# Altium footprint library 7S_WR.PcbLib: 75 footprints (part 4 of 5)
Each footprint in its own frame and in the unit in brackets; x right, y up, seen from the top. Pads: shape width x height; smd on the part's side, far side on the other; paste and mask are expansions set on the pad; w line width, h text height; cw(c..) or ccw(c..) is an arc to the next point about the centre after c.
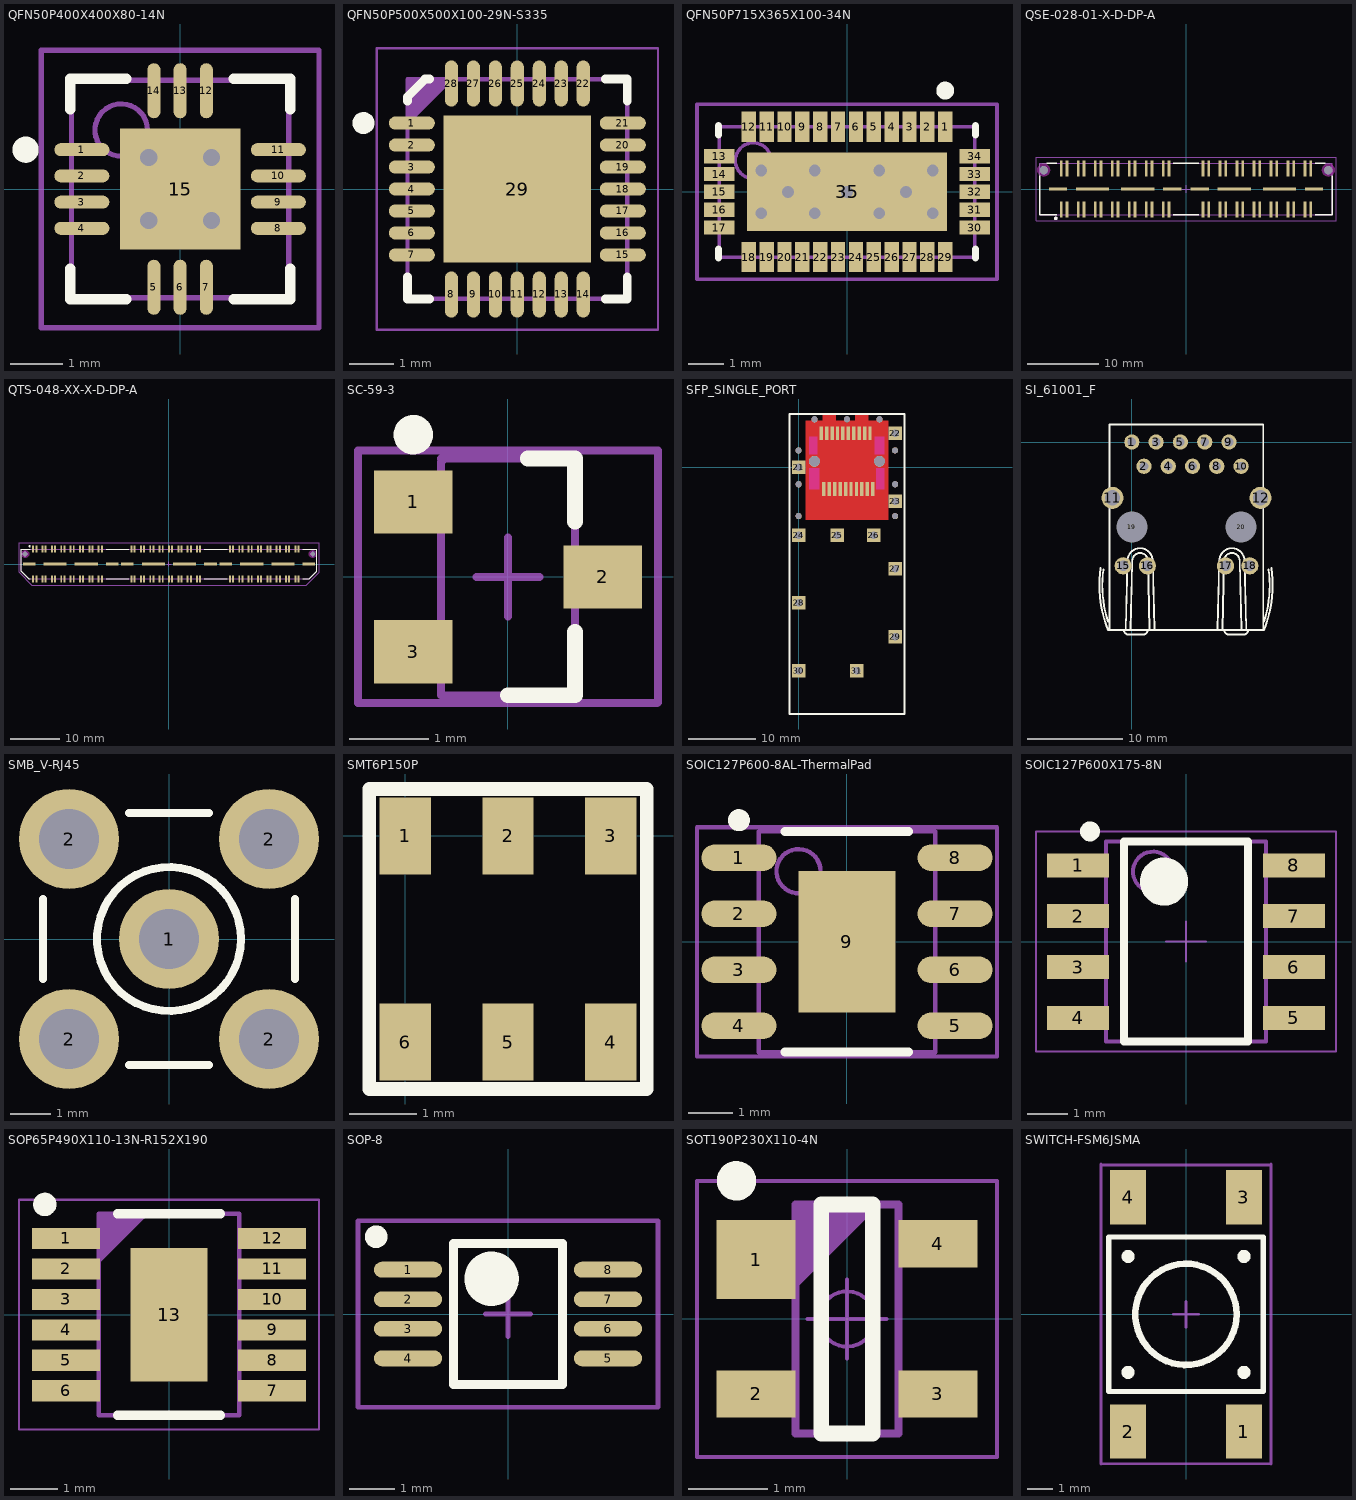
[diagram p3: the footprints below, top view; thin cyan lines are the x and y axes]

## QFN50P400X400X80-14N [mm] "QFN, 14-Leads, Body 4,2x4,2mm (max), Pitch 0,50mm, IPC Medium Density"
height 3.55
pads (15):
  oval 1.05x0.25 smd: 1(-1.875,0.75) 2(-1.875,0.25) 3(-1.875,-0.25) 4(-1.875,-0.75) 8(1.875,-0.75) 9(1.875,-0.25) 10(1.875,0.25) 11(1.875,0.75)
  oval 0.25x1.05 smd: 5(-0.5,-1.875) 6(0,-1.875) 7(0.5,-1.875) 12(0.5,1.875) 13(0,1.875) 14(-0.5,1.875)
  rect 2.3x2.3 smd: 15(0,0)
via 0.6,-0.6 diameter 0.66 hole 0.33
via -0.6,-0.6 diameter 0.66 hole 0.33
via 0.6,0.6 diameter 0.66 hole 0.33
via -0.6,0.6 diameter 0.66 hole 0.33
Top Overlay:
  circle w0.25: c-2.95,0.75 r0.125
  lines w0.2: -2.1,-1.525 -2.1,-2.1 -1.025,-2.1 ; -2.1,1.525 -2.1,2.1 -1.025,2.1 ; 1.025,-2.1 2.1,-2.1 2.1,-1.525 ; 1.025,2.1 2.1,2.1 2.1,1.525
Mechanical 13:
  circle w0.1: c-1.125,1.125 r0.5
  lines w0.1: -2.075,-2.075 2.075,-2.075 2.075,2.075 -2.075,2.075 -2.075,-2.075
Mechanical 15:
  lines w0.1: -0.5,0 0.5,0 ; 0,-0.5 0,0.5 ; -2.65,-2.65 2.65,-2.65 2.65,2.65 -2.65,2.65 -2.65,-2.65
3D body: height 0.8, standoff 0.01, extent -2.075,-2.075 2.075,2.075

## QFN50P500X500X100-29N-S335 [mm] "QFN, 0.50mm Pitch, Square; 28 pin, 5.00mm L X 5.00mm W X 1.00mm H body (w/thermal tab 3.35 X 3.35mm),  IPC Medium Density"
height 1
pads (29):
  oval 1.05x0.3 smd: 1(-2.4,1.5) 2(-2.4,1) 3(-2.4,0.5) 4(-2.4,0) 5(-2.4,-0.5) 6(-2.4,-1) 7(-2.4,-1.5) 15(2.4,-1.5) 16(2.4,-1) 17(2.4,-0.5) 18(2.4,0) 19(2.4,0.5) 20(2.4,1) 21(2.4,1.5)
  oval 0.3x1.05 smd: 8(-1.5,-2.4) 9(-1,-2.4) 10(-0.5,-2.4) 11(0,-2.4) 12(0.5,-2.4) 13(1,-2.4) 14(1.5,-2.4) 22(1.5,2.4) 23(1,2.4) 24(0.5,2.4) 25(0,2.4) 26(-0.5,2.4) 27(-1,2.4) 28(-1.5,2.4)
  rect 3.35x3.35 smd: 29(0,0)
Top Overlay:
  circle w0.25: c-3.5,1.5 r0.125
  lines w0.2: -2.5,-2 -2.5,-2.5 -2,-2.5 ; -2.5,2 -2.5,2.1 -2.1,2.5 -2,2.5 ; 2,-2.5 2.5,-2.5 2.5,-2 ; 2,2.5 2.5,2.5 2.5,2
Mechanical 14:
  lines w0.1: -2.5,1.5 -1.5,2.5 ; -2.5,1.6 -1.6,2.5 ; -2.5,1.7 -1.7,2.5 ; -2.5,1.8 -1.8,2.5 ; -2.5,1.9 -1.9,2.5 ; -2.5,2 -2,2.5 ; -2.5,2.1 -2.1,2.5 ; -2.5,2.2 -2.2,2.5 ; -2.5,2.3 -2.3,2.5 ; -2.5,2.4 -2.4,2.5 ; -2.5,-2.5 2.5,-2.5 2.5,2.5 -2.5,2.5 -2.5,-2.5
Mechanical 15:
  circle w0.05: c0,0 r0.35
  lines w0.05: -0.5,0 0.5,0 ; 0,-0.5 0,0.5 ; -3.2,-3.2 3.2,-3.2 3.2,3.2 -3.2,3.2 -3.2,-3.2
3D body: height 1, standoff 0, extent -2.5,-2.5 2.5,2.5

## QFN50P715X365X100-34N [mm] "QFN, 34-Leads, Body 3,7x7,2mm (max), Pitch 0,50mm, IPC Medium Density"
height 1
pads (35):
  rect 0.4x0.85 smd: 1(2.75,1.825) 2(2.25,1.825) 3(1.75,1.825) 4(1.25,1.825) 5(0.75,1.825) 6(0.25,1.825) 7(-0.25,1.825) 8(-0.75,1.825) 9(-1.25,1.825) 10(-1.75,1.825) 11(-2.25,1.825) 12(-2.75,1.825) 18(-2.75,-1.825) 19(-2.25,-1.825) 20(-1.75,-1.825) 21(-1.25,-1.825) 22(-0.75,-1.825) 23(-0.25,-1.825) 24(0.25,-1.825) 25(0.75,-1.825) 26(1.25,-1.825) 27(1.75,-1.825) 28(2.25,-1.825) 29(2.75,-1.825)
  rect 0.85x0.4 smd: 13(-3.575,1) 14(-3.575,0.5) 15(-3.575,0) 16(-3.575,-0.5) 17(-3.575,-1) 30(3.575,-1) 31(3.575,-0.5) 32(3.575,0) 33(3.575,0.5) 34(3.575,1)
  rect 5.6x2.2 smd: 35(0,0)
via 1.65,0 diameter 0.66 hole 0.33
via 0,0 diameter 0.66 hole 0.33
via -1.65,0 diameter 0.66 hole 0.33
via 2.4,-0.6 diameter 0.66 hole 0.33
via 0.9,-0.6 diameter 0.66 hole 0.33
via -0.9,-0.6 diameter 0.66 hole 0.33
via -2.4,-0.6 diameter 0.66 hole 0.33
via 2.4,0.6 diameter 0.66 hole 0.33
via 0.9,0.6 diameter 0.66 hole 0.33
via -0.9,0.6 diameter 0.66 hole 0.33
via -2.4,0.6 diameter 0.66 hole 0.33
Top Overlay:
  circle w0.25: c2.75,2.835 r0.125
  lines w0.2: -3.6,-1.6 -3.6,-1.85 ; -3.6,1.6 -3.6,1.85 ; 3.6,-1.85 3.6,-1.6 ; 3.6,1.6 3.6,1.85 ; -3.6,-1.85 -3.6,-1.85 ; -3.6,1.85 -3.6,1.85
Mechanical 13:
  circle w0.1: c-2.625,0.875 r0.5
  lines w0.1: -3.575,-1.825 3.575,-1.825 3.575,1.825 -3.575,1.825 -3.575,-1.825
Mechanical 15:
  lines w0.1: -0.5,0 0.5,0 ; 0,-0.5 0,0.5 ; -4.2,-2.45 4.2,-2.45 4.2,2.45 -4.2,2.45 -4.2,-2.45
3D body: height 1, standoff 0.05, extent -3.575,-1.825 3.575,1.825

## QSE-028-01-X-D-DP-A [mm] "0.80mm pitch, 56 pin, high speed socket strip; differential"
height 3.25
pads (66):
  rect 0.4x2.25 smd mask+0: 1(-17.6,-2.87) 2(-17.6,2.87) 3(-16.8,-2.87) 4(-16.8,2.87) 5(-15.2,-2.87) 6(-15.2,2.87) 7(-14.4,-2.87) 8(-14.4,2.87) 9(-12.8,-2.87) 10(-12.8,2.87) 11(-12,-2.87) 12(-12,2.87) 13(-10.4,-2.87) 14(-10.4,2.87) 15(-9.6,-2.87) 16(-9.6,2.87) 17(-8,-2.87) 18(-8,2.87) 19(-7.2,-2.87) 20(-7.2,2.87) 21(-5.6,-2.87) 22(-5.6,2.87) 23(-4.8,-2.87) 24(-4.8,2.87) 25(-3.2,-2.87) 26(-3.2,2.87) 27(-2.4,-2.87) 28(-2.4,2.87) 29(2.4,-2.87) 30(2.4,2.87) 31(3.2,-2.87) 32(3.2,2.87) 33(4.8,-2.87) 34(4.8,2.87) 35(5.6,-2.87) 36(5.6,2.87) 37(7.2,-2.87) 38(7.2,2.87) 39(8,-2.87) 40(8,2.87) 41(9.6,-2.87) 42(9.6,2.87) 43(10.4,-2.87) 44(10.4,2.87) 45(12,-2.87) 46(12,2.87) 47(12.8,-2.87) 48(12.8,2.87) 49(14.4,-2.87) 50(14.4,2.87) 51(15.2,-2.87) 52(15.2,2.87) 53(16.8,-2.87) 54(16.8,2.87) 55(17.6,-2.87) 56(17.6,2.87)
  rect 2.55x0.45 smd mask+0: 57(-18.065,0) 60(-1.935,0) 61(1.935,0) 64(18.065,0)
  rect 4.7x0.45 smd mask+0: 58(-13.175,0) 59(-6.825,0) 62(6.825,0) 63(13.175,0)
  round 1 hole 1.2 unplated mask+0: 65(-20.065,2.67) 66(20.065,2.67)
Top Overlay:
  circle w0.25: c-18.35,-4.15 r0.125
  lines w0.2: -20.65,1.85 -20.65,-3.6 -18.2,-3.6 ; -19.6,3.6 -18.2,3.6 ; -1.8,-3.6 1.8,-3.6 ; -1.8,3.6 1.8,3.6 ; 18.2,-3.6 20.65,-3.6 20.65,1.85 ; 18.2,3.6 19.6,3.6
Keep-Out Layer:
  pour cut-out: -19.157,2.67 -19.188,2.905 -19.279,3.124 -19.423,3.312 -19.611,3.456 -19.83,3.547 -20.065,3.578 -20.3,3.547 -20.519,3.456 -20.707,3.312 -20.851,3.124 -20.942,2.905 -20.973,2.67 -20.942,2.435 -20.851,2.216 -20.707,2.028 -20.519,1.884 -20.3,1.793 -20.065,1.762 -19.83,1.793 -19.611,1.884 -19.423,2.028 -19.279,2.216 -19.188,2.435
  pour cut-out: 20.973,2.67 20.942,2.905 20.851,3.124 20.707,3.312 20.519,3.456 20.3,3.547 20.065,3.578 19.83,3.547 19.611,3.456 19.423,3.312 19.279,3.124 19.188,2.905 19.157,2.67 19.188,2.435 19.279,2.216 19.423,2.028 19.611,1.884 19.83,1.793 20.065,1.762 20.3,1.793 20.519,1.884 20.707,2.028 20.851,2.216 20.942,2.435
Mechanical 12:
  lines w0.001: -20.65,-3.6 20.65,-3.6 20.65,3.6 -20.65,3.6 -20.65,-3.6
Mechanical 13:
  circle w0.25: c-18.35,-4.15 r0.125
  lines w0.1: -20.65,-3.6 20.65,-3.6 20.65,3.6 -20.65,3.6 -20.65,-3.6
  text ".Designator" at 0,0 h1.52
Mechanical 15:
  lines w0.05: -0.5,0 0.5,0 ; 0,-0.5 0,0.5 ; -21.15,-4.5 21.15,-4.5 21.15,4.5 -21.15,4.5 -21.15,-4.5

## QTS-048-XX-X-D-DP-A [mm] "0.635mm pitch, 110 pin, terminal assembly; 48 differential pairs, high speed, double row, SMT"
height 4.27
pads (110):
  rect 0.4x1.45 smd mask+0: 1(-27.622,3.086) 2(-27.622,-3.086) 3(-26.987,3.086) 4(-26.987,-3.086) 5(-25.717,3.086) 6(-25.717,-3.086) 7(-25.082,3.086) 8(-25.082,-3.086) 9(-23.812,3.086) 10(-23.812,-3.086) 11(-23.177,3.086) 12(-23.177,-3.086) 13(-21.907,3.086) 14(-21.907,-3.086) 15(-21.273,3.086) 16(-21.273,-3.086) 17(-20.002,3.086) 18(-20.002,-3.086) 19(-19.367,3.086) 20(-19.367,-3.086) 21(-18.098,3.086) 22(-18.098,-3.086) 23(-17.462,3.086) 24(-17.462,-3.086) 25(-16.192,3.086) 26(-16.192,-3.086) 27(-15.557,3.086) 28(-15.557,-3.086) 29(-14.287,3.086) 30(-14.287,-3.086) 31(-13.652,3.086) 32(-13.652,-3.086) 33(-7.62,3.086) 34(-7.62,-3.086) 35(-6.985,3.086) 36(-6.985,-3.086) 37(-5.715,3.086) 38(-5.715,-3.086) 39(-5.08,3.086) 40(-5.08,-3.086) 41(-3.81,3.086) 42(-3.81,-3.086) 43(-3.175,3.086) 44(-3.175,-3.086) 45(-1.905,3.086) 46(-1.905,-3.086) 47(-1.27,3.086) 48(-1.27,-3.086) 49(0,3.086) 50(0,-3.086) 51(0.635,3.086) 52(0.635,-3.086) 53(1.905,3.086) 54(1.905,-3.086) 55(2.54,3.086) 56(2.54,-3.086) 57(3.81,3.086) 58(3.81,-3.086) 59(4.445,3.086) 60(4.445,-3.086) 61(5.715,3.086) 62(5.715,-3.086) 63(6.35,3.086) 64(6.35,-3.086) 65(12.383,3.086) 66(12.383,-3.086) 67(13.018,3.086) 68(13.018,-3.086) 69(14.287,3.086) 70(14.287,-3.086) 71(14.922,3.086) 72(14.922,-3.086) 73(16.192,3.086) 74(16.192,-3.086) 75(16.828,3.086) 76(16.828,-3.086) 77(18.098,3.086) 78(18.098,-3.086) 79(18.732,3.086) 80(18.732,-3.086) 81(20.002,3.086) 82(20.002,-3.086) 83(20.637,3.086) 84(20.637,-3.086) 85(21.907,3.086) 86(21.907,-3.086) 87(22.543,3.086) 88(22.543,-3.086) 89(23.812,3.086) 90(23.812,-3.086) 91(24.447,3.086) 92(24.447,-3.086) 93(25.717,3.086) 94(25.717,-3.086) 95(26.352,3.086) 96(26.352,-3.086)
  rect 2.55x0.65 smd mask+0: 97(-28.448,0) 100(-11.557,0) 101(-8.445,0) 104(8.445,0) 105(11.557,0) 108(28.448,0)
  rect 4.7x0.65 smd mask+0: 98(-23.177,0) 99(-16.828,0) 102(-3.175,0) 103(3.175,0) 106(16.828,0) 107(23.177,0)
  round 0.5 hole 1 unplated mask+0: 109(-29.242,2.032) 110(29.242,2.032)
Top Overlay:
  circle w0.25: c-28.35,3.6 r0.125
  lines w0.2: -28.2,-3 -28.5,-3 -30,-1.5 -30,3 -28.2,3 ; -12.8,-3 -8.2,-3 ; -12.8,3 -8.2,3 ; 7.2,-3 11.8,-3 ; 7.2,3 11.8,3 ; 27.2,-3 28.5,-3 30,-1.5 30,3 27.2,3
Keep-Out Layer:
  pour cut-out: 30.049,2.032 30.021,2.241 29.941,2.435 29.813,2.603 29.645,2.731 29.451,2.811 29.242,2.839 29.033,2.811 28.839,2.731 28.671,2.603 28.543,2.435 28.463,2.241 28.435,2.032 28.463,1.823 28.543,1.629 28.671,1.461 28.839,1.333 29.033,1.253 29.242,1.225 29.451,1.253 29.645,1.333 29.813,1.461 29.941,1.629 30.021,1.823
  pour cut-out: -28.435,2.032 -28.463,2.241 -28.543,2.435 -28.671,2.603 -28.839,2.731 -29.033,2.811 -29.242,2.839 -29.451,2.811 -29.645,2.731 -29.813,2.603 -29.941,2.435 -30.021,2.241 -30.049,2.032 -30.021,1.823 -29.941,1.629 -29.813,1.461 -29.645,1.333 -29.451,1.253 -29.242,1.225 -29.033,1.253 -28.839,1.333 -28.671,1.461 -28.543,1.629 -28.463,1.823
Mechanical 12:
  lines w0.001: -30,-1.5 -30,3 30,3 30,-1.5 28.5,-3 -28.5,-3 -30,-1.5
Mechanical 13:
  lines w0.1: -30,-1.5 -30,3 30,3 30,-1.5 28.5,-3 -28.5,-3 -30,-1.5
  text ".Designator" at 0,-0.127 h1.52
Mechanical 15:
  lines w0.05: -0.5,0 0.5,0 ; 0,-0.5 0,0.5 ; -30.5,-1.7 -30.5,4.3 30.505,4.3 30.505,-1.696 27.896,-4.3 -27.9,-4.3 -30.5,-1.7

## SC-59-3 [mm]
pads (3):
  rect 1x0.8 smd: 1(-1.2,0.95) 2(1.2,0) 3(-1.2,-0.95)
Top Overlay:
  circle w0.25: c-1.2,1.8 r0.125
  lines w0.2: 0,-1.5 0.85,-1.5 0.85,-0.7 ; 0.25,1.5 0.85,1.5 0.85,0.7
Mechanical 13:
  lines w0.1: -0.85,1.5 0.85,1.5 0.85,-1.495 0.845,-1.495 0.84,-1.5 ; -0.805,1.5 -0.85,1.455 -0.85,-1.5 0.85,-1.5
Mechanical 15:
  lines w0.1: -0.4,0 0.4,0 ; 0,-0.5 0,0.5 ; -1.9,-1.6 -1.9,1.6 1.9,1.6 1.9,-1.59 1.89,-1.6 -1.9,-1.6
3D body: height 1.12, standoff 0, extent -0.82,-1.495 0.85,1.505

## SFP_SINGLE_PORT [mm]
height 3.43
pads (42):
  rect 0.5x2 smd: 1(3.73,-3.2) 2(4.53,-3.2) 3(5.33,-3.2) 4(6.13,-3.2) 5(6.93,-3.2) 6(7.73,-3.2) 7(8.53,-3.2) 8(9.33,-3.2) 9(10.13,-3.2) 10(10.93,-3.2) 11(10.53,5) 12(9.73,5) 13(8.93,5) 14(8.13,5) 15(7.33,5) 16(6.53,5) 17(5.73,5) 18(4.93,5) 19(4.13,5) 20(3.33,5)
  rect 2x2 hole 1.1: 21(0,0) 22(14.25,5) 23(14.25,-5) 24(0,-10) 25(5.68,-10) 26(11.08,-10) 27(14.25,-15) 28(0,-20) 29(14.25,-25) 30(0,-30) 31(8.58,-30)
  round 0.9 hole 0.9 unplated: ""(0,-7.2) ""(0,-2.5) ""(0,2.5) ""(2.33,7.1) ""(7.13,7.1) ""(11.93,7.1) ""(14.25,-7.2) ""(14.25,-2.5) ""(14.25,2.5)
  round 1.6 hole 1.6 unplated: ""(2.33,0.9) ""(11.93,0.9)
Top Layer:
  pour cut-out: 1.016,6.858 3.556,6.858 3.556,7.874 5.461,7.874 5.461,6.858 8.382,6.858 8.382,7.874 10.287,7.874 10.287,6.858 13.208,6.858 13.208,-7.747 1.016,-7.747
Top Layer keep-out:
  rectangle: 1.524,1.905 2.794,4.572
  rectangle: 1.524,-3.302 3.048,-0.127
  rectangle: 11.43,-3.302 12.7,-0.127
  rectangle: 11.176,1.905 12.7,4.572
Top Overlay:
  lines w0.2: 15.513,-36.417 15.565,-36.365
  lines w0.254: 15.513,-36.417 -1.34,-36.417 -1.34,7.874 15.61,7.874 15.61,-36.417

## SI_61001_F [mm] "1 Port, Green/Green LEDs, RJ45 10/100/1000 Gigabit Ethernet, MagJack Connector Module"
height 13.72
pads (18):
  round 1.6 hole 0.9: 1(0,0) 2(1.27,-2.54) 3(2.54,0) 4(3.81,-2.54) 5(5.08,0) 6(6.35,-2.54) 7(7.62,0) 8(8.89,-2.54) 9(10.16,0) 10(11.43,-2.54)
  round 2.3 hole 1.6: 11(-2.03,-5.84) 12(13.46,-5.84)
  round 1.8 hole 1.1: 15(-0.91,-12.95) 16(1.63,-12.95) 17(9.8,-12.95) 18(12.34,-12.95)
  round 1 hole 3.25 unplated mask+1.1: 19(0,-8.89) 20(11.43,-8.89)
Top Overlay:
  lines w0.1: -2.35,-19.68 13.785,-19.68 13.745,-19.64
  lines w0.2: -3.259,-13.185 ccw(c8.981,-14.995) -2.485,-19.645 13.815,-19.645 ccw(c2.349,-14.995) 14.589,-13.185 ; -2.977,-13.334 ccw(c8.981,-14.995) -2.485,-18.775 ; -2.35,-19.68 -2.35,1.85 13.745,1.85 13.745,-19.64 ; -0.835,-19.645 ccw(c-0.335,-19.645) -0.335,-20.145 1.165,-20.145 ccw(c1.165,-19.645) 1.665,-19.645 ; -0.635,-19.645 -0.455,-12.432 cw(c0.865,-12.432) 2.185,-12.432 2.365,-19.645 ; -0.135,-19.645 0.046,-12.432 cw(c0.865,-12.432) 1.684,-12.411 1.865,-19.645 ; 8.965,-19.645 9.145,-12.432 cw(c10.465,-12.432) 11.785,-12.432 11.965,-19.645 ; 9.465,-19.645 9.646,-12.411 cw(c10.465,-12.432) 11.284,-12.432 11.465,-19.645 ; 9.665,-19.645 ccw(c10.165,-19.645) 10.165,-20.145 11.665,-20.145 ccw(c11.665,-19.645) 12.165,-19.645 ; 13.815,-18.775 ccw(c2.349,-14.995) 14.307,-13.334

## SMB_V-RJ45 [mm] "Connector; SMB Straight"
pads (5):
  round 2.5 hole 1.5: 1(0,0) 2(-2.5,-2.5) 2(-2.5,2.5) 2(2.5,-2.5) 2(2.5,2.5)
Top Overlay:
  circle w0.2: c0,0 r1.8
  lines w0.2: -3.15,-1 -3.15,1 ; -1,-3.15 1,-3.15 ; -1,3.15 1,3.15 ; 3.15,-1 3.15,1

## SMT6P150P [mm] "WBC Series Coilcraft Transformer 4.19mmx4.45mm Footprint"
height 3.05
pads (6):
  rect 0.76x1.14 smd: 1(0,0) 2(1.52,0) 3(3.04,0) 4(3.04,-3.05) 5(1.52,-3.05) 6(0,-3.05)
Top Overlay:
  lines w0.2: -0.53,-3.745 3.57,-3.745 3.57,0.695 -0.53,0.695 -0.53,-0.325 -0.53,-3.745

## SOIC127P600-8AL-ThermalPad [mm] "SOIC, 8-Leads, Body 4.9x3.9mm, Pitch 1.27mm, IPC High Density"
height 2.72
pads (9):
  oval 1.7x0.6 smd: 1(-2.45,1.905) 2(-2.45,0.635) 3(-2.45,-0.635) 4(-2.45,-1.905) 5(2.45,-1.905) 6(2.45,-0.635) 7(2.45,0.635) 8(2.45,1.905)
  rect 2.2x3.2 smd: 9(0,0)
Top Overlay:
  circle w0.25: c-2.45,2.755 r0.125
  lines w0.2: -1.41,-2.5 1.4,-2.5 ; -1.41,2.5 1.4,2.5
Mechanical 13:
  circle w0.1: c-1.1,1.6 r0.5
  lines w0.1: -2,-2.5 -2,2.5 2,2.5 2,-2.5 -2,-2.5
Mechanical 15:
  lines w0.1: -0.5,0 0.5,0 ; 0,-0.5 0,0.5 ; -3.4,-2.6 -3.4,2.6 3.4,2.6 3.4,-2.6 -3.4,-2.6
3D body: height 2.72, standoff 0, extent -2,-2.5 2,2.5

## SOIC127P600X175-8N [mm] "SOIC 8, Pitch 1.27mm - Body 4x5mm, IPC Medium Density"
height 1.75
pads (8):
  rect 1.55x0.6 smd: 1(-2.7,1.905) 2(-2.7,0.635) 3(-2.7,-0.635) 4(-2.7,-1.905) 5(2.7,-1.905) 6(2.7,-0.635) 7(2.7,0.635) 8(2.7,1.905)
Top Overlay:
  circle w0.25: c-2.4,2.755 r0.125
  circle w0.6: c-0.55,1.5 r0.3
  lines w0.2: -1.55,-2.5 -1.55,2.5 1.55,2.5 1.55,-2.5 -1.55,-2.5
Mechanical 14:
  circle w0.1: c-0.825,1.75 r0.5
  lines w0.1: -2,-2.5 -2,2.5 2,2.5 2,-2.5 -2,-2.5
Mechanical 15:
  lines w0.05: -0.5,0 0.5,0 ; 0,-0.5 0,0.5 ; -3.75,-2.75 -3.75,2.75 3.75,2.75 3.75,-2.75 -3.75,-2.75
3D body: height 1.75, standoff 0, extent -3.1,-2.5 3.1,2.5

## SOP65P490X110-13N-R152X190 [mm] "SOP, 12-Leads, Body 4mmx3mm (max), Pitch 0.65mm, (w/thermal tab 1.65 X 2.85 mm), IPC Medium Density"
height 1.1
pads (13):
  rect 1.45x0.45 smd: 1(-2.2,1.625) 2(-2.2,0.975) 3(-2.2,0.325) 4(-2.2,-0.325) 5(-2.2,-0.975) 6(-2.2,-1.625) 7(2.2,-1.625) 8(2.2,-0.975) 9(2.2,-0.325) 10(2.2,0.325) 11(2.2,0.975) 12(2.2,1.625)
  rect 1.65x2.85 smd paste-0.305: 13(0,0)
Top Overlay:
  circle w0.25: c-2.65,2.35 r0.125
  lines w0.2: -1.1,-2.15 1.1,-2.15 ; -1.1,2.15 1.1,2.15
Mechanical 14:
  lines w0.1: -1.5,1.15 -0.5,2.15 ; -1.5,1.25 -0.6,2.15 ; -1.5,1.35 -0.7,2.15 ; -1.5,1.45 -0.8,2.15 ; -1.5,1.55 -0.9,2.15 ; -1.5,1.65 -1,2.15 ; -1.5,1.75 -1.1,2.15 ; -1.5,1.85 -1.2,2.15 ; -1.5,1.95 -1.3,2.15 ; -1.5,2.05 -1.4,2.15 ; -1.5,-2.15 -1.5,2.15 1.5,2.15 1.5,-2.15 -1.5,-2.15
Mechanical 15:
  circle w0.05: c0,0 r0.35
  lines w0.05: -0.5,0 0.5,0 ; 0,-0.65 0,0.65 ; -3.2,-2.45 3.2,-2.45 3.2,2.45 -3.2,2.45 -3.2,-2.45

## SOP-8 [mm] "TSOP, 8-Leads, Body 2.9x3.1mm, Pitch 0.65mm, IPC Low Density"
height 1.2
pads (8):
  oval 1.5x0.35 smd: 1(-2.2,0.975) 2(-2.2,0.325) 3(-2.2,-0.325) 4(-2.2,-0.975) 5(2.2,-0.975) 6(2.2,-0.325) 7(2.2,0.325) 8(2.2,0.975)
Top Overlay:
  circle w0.6: c-0.36,0.775 r0.3
  circle w0.25: c-2.9,1.7 r0.125
  lines w0.2: -1.2,-1.55 1.2,-1.55 1.2,1.55 -1.2,1.55 -1.2,-1.55
Mechanical 13:
  circle w0.1: c-0.385,0.77 r0.5
  lines w0.1: -1.2,-1.55 1.2,-1.55 1.2,1.55 -1.2,1.55 -1.2,-1.55
Mechanical 15:
  lines w0.1: -0.5,0 0.5,0 ; 0,-0.5 0,0.5 ; -3.3,-2.05 3.3,-2.05 3.3,2.05 -3.3,2.05 -3.3,-2.05
3D body: height 1.2, standoff 0, extent -1.2,-1.55 1.2,1.55

## SOT190P230X110-4N [mm] "SOT143, SOT, 1.90mm Pitch; 4 Pin, 1.30mm W X 2.90mm L X 1.10mm H body, IPC Medium Density"
height 1.1
pads (4):
  rect 1x1 smd: 1(-1.15,0.75)
  rect 1x0.6 smd: 2(-1.15,-0.95) 3(1.15,-0.95) 4(1.15,0.95)
Top Overlay:
  circle w0.25: c-1.4,1.75 r0.125
  lines w0.2: -0.325,-1.45 -0.325,1.45 0.325,1.45 0.325,-1.45 -0.325,-1.45
Mechanical 14:
  lines w0.1: -0.65,0.45 0.35,1.45 ; -0.65,0.55 0.25,1.45 ; -0.65,0.65 0.15,1.45 ; -0.65,0.75 0.05,1.45 ; -0.65,0.85 -0.05,1.45 ; -0.65,0.95 -0.15,1.45 ; -0.65,1.05 -0.25,1.45 ; -0.65,1.15 -0.35,1.45 ; -0.65,1.25 -0.45,1.45 ; -0.65,1.35 -0.55,1.45 ; -0.65,-1.45 -0.65,1.45 0.65,1.45 0.65,-1.45 -0.65,-1.45
Mechanical 15:
  circle w0.05: c0,0 r0.35
  lines w0.05: -0.5,0 0.5,0 ; 0,-0.5 0,0.5 ; -1.9,-1.75 -1.9,1.75 1.9,1.75 1.9,-1.75 -1.9,-1.75
3D body: height 1.1, standoff 0, extent -1.25,-1.5 1.25,1.5

## SWITCH-FSM6JSMA [mm] "ALCOSWITCH - FSM6JSMA - SWITCH, TACTILE, SPNO, SMD"
height 3.97
pads (4):
  rect 1.4x2.1 smd: 1(2.25,-4.55) 2(-2.25,-4.55) 3(2.25,4.55) 4(-2.25,4.55)
Top Overlay:
  circle w0.254: c2.25,-2.25 r0.128
  circle w0.254: c-2.25,-2.25 r0.128
  circle w0.254: c2.25,2.25 r0.128
  circle w0.254: c-2.25,2.25 r0.128
  circle w0.254: c0,0 r1.966
  lines w0.2: -3,-3 3,-3 3,3 -3,3 -3,-3
Mechanical 13:
  lines w0.1: -3,-3 3,-3 3,3 -3,3 -3,-3
Mechanical 15:
  lines w0.1: -3.3,-5.81 -3.3,5.84 ; -3.3,-5.8 3.3,-5.8 ; -3.3,5.8 3.3,5.8 ; -0.5,0 0.5,0 ; 0,-0.5 0,0.5 ; 3.3,-5.81 3.3,5.84
3D body: height 3.97, standoff 0.25, extent -3,-3 3,3